# EAGLE library part ORBIT_VOLT-REGULATOR_AP1509-50SG-13 (library ORBIT-VOLT-REGULATOR)
Voltage Regulator DC/DC CONVERTER AP1509-50SG-13 OUTPUT 5V https://www.digikey.com/product-detail/en/diodes-incorporated/AP1509-50SG-13/AP1509-50SGDICT-ND/1301653
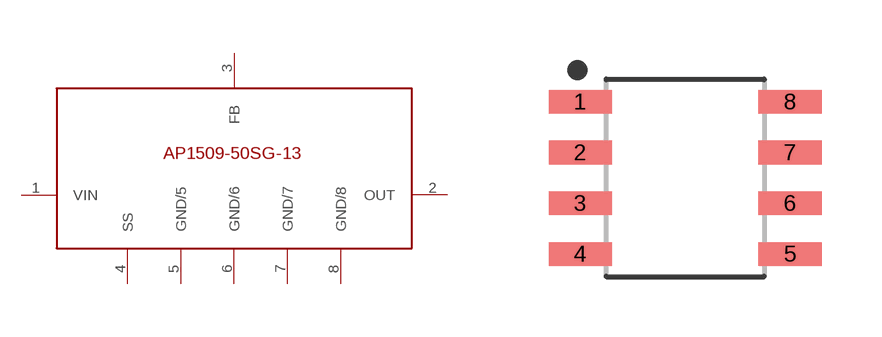
[diagram p1: symbol with the pads of 8-SOIC; footprint 8-SOIC]

Designator prefix -

## ORBIT_VOLT-REGULATOR_AP1509-50SG-13  [8-SOIC]
1  VIN  pwr
2  OUT  out
3  FB
4  SS
5  GND/5  pwr
6  GND/6  pwr
7  GND/7  pwr
8  GND/8  pwr

## Footprint 8-SOIC (pad centres in mm)
8-SOIC, 1.27 mm pitch, 6.00 mm span, 4.90 X 3.90 X 1.50 mm body 8-pin SOIC package with 1.27 mm pitch, 6.00 mm span with body size 4.90 X 3.90 X 1.50 mm
smd 1.58 x 0.589: 1 -2.625,1.905; 2 -2.625,0.635; 3 -2.625,-0.635; 4 -2.625,-1.905; 5 2.625,-1.905; 6 2.625,-0.635; 7 2.625,0.635; 8 2.625,1.905